# EAGLE library part LDB21 (library ap_transformer)
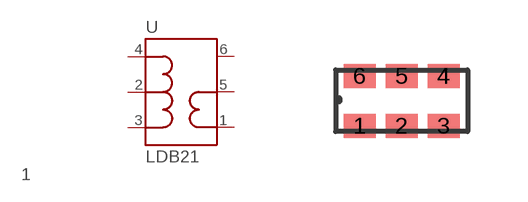
[diagram p0: symbol with the pads of DIL-6; footprint DIL-6]

Designator prefix -

## LDB21  [DIL-6]
1  UNBAL
2  GND2  pwr
3  BAL3
4  BAL4
5  GND5  sup
6  NC  nc

## Footprint DIL-6 (pad centres in mm)
smd 0.8 x 0.6: 1 -1.1,-0.6; 2 -0.05,-0.6; 3 1,-0.6; 4 1,0.65; 5 -0.05,0.65; 6 -1.1,0.65